# Altium footprint library H4_6-port_EtherCAT_Junction_Module.PcbLib: 31 footprints (part 2 of 2)
Each footprint in its own frame and in the unit in brackets; x right, y up, seen from the top. Pads: shape width x height; smd on the part's side, far side on the other; paste and mask are expansions set on the pad; w line width, h text height; cw(c..) or ccw(c..) is an arc to the next point about the centre after c.
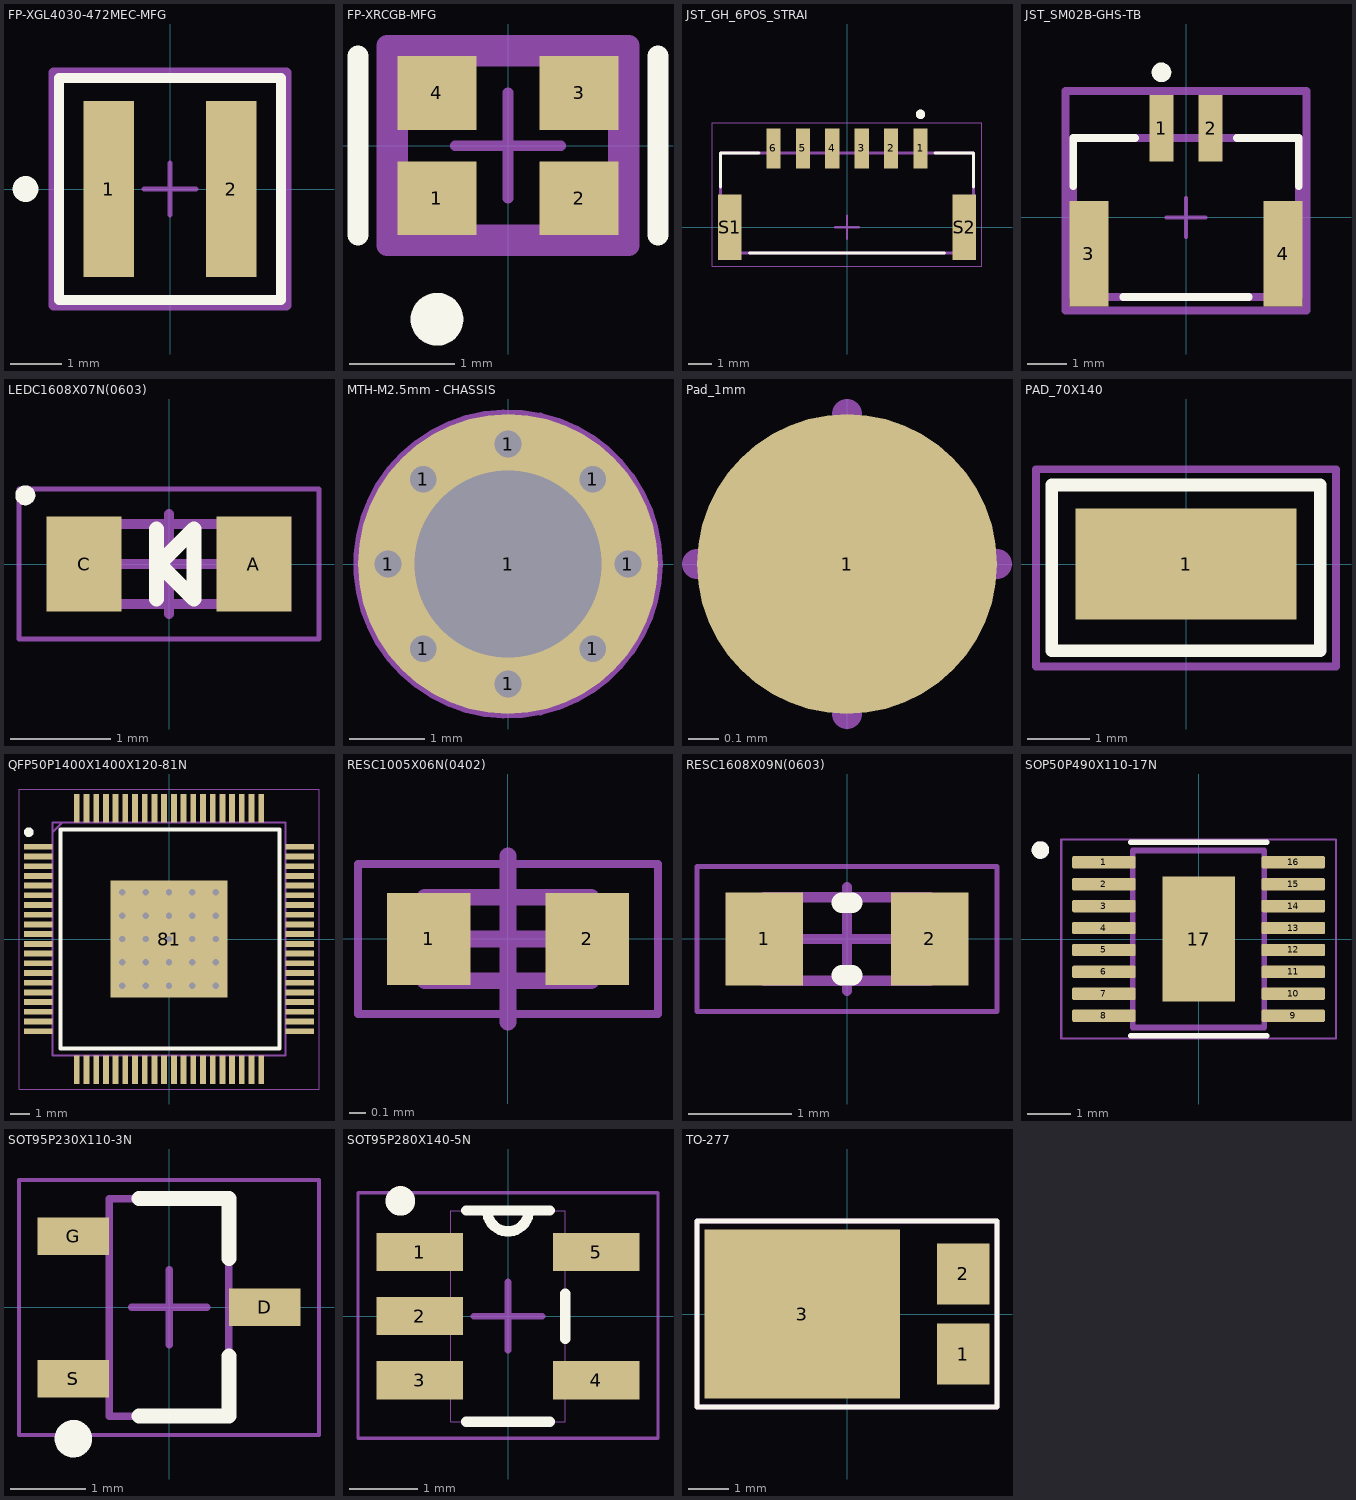
[diagram p1: the footprints below, top view; thin cyan lines are the x and y axes]

## FP-XGL4030-472MEC-MFG [mm]
pads (2):
  rect 0.98x3.4 smd paste+0 mask+0: 1(-1.185,0) 2(1.185,0)
Top Overlay:
  circle w0.25: c-2.8,0 r0.125
  lines w0.2: -2.15,-2.15 2.15,-2.15 2.15,2.15 -2.15,2.15 -2.15,-2.15
Top Designator:
  text ".Designator" at 0.089,0.367 h0.89
Top Component Outline:
  lines w0.2: -2.15,-2.15 2.15,-2.15 2.15,2.15 -2.15,2.15 -2.15,-2.15
Top Component Center:
  lines w0.1: -0.5,0 0.5,0 ; 0,-0.5 0,0.5
Top Courtyard:
  lines w0.2: -2.25,-2.25 2.25,-2.25 ; -2.25,-2.25 -2.25,2.25 ; -2.25,-2.25 2.25,-2.25 ; -2.25,-2.25 -2.25,2.25 ; -2.25,2.25 2.25,2.25 ; -2.25,2.25 2.25,2.25 ; 2.25,-2.25 2.25,2.25 ; 2.25,-2.25 2.25,2.25
3D body "Ind_Coilcraft_XGL4030-472MEC_eec.STEP": height 0.25, standoff 0, extent -2.25,-2.25 2.25,2.25

## FP-XRCGB-MFG [mm]
pads (4):
  rect 0.75x0.7 smd paste+0 mask+0: 1(-0.675,-0.5) 2(0.675,-0.5) 3(0.675,0.5) 4(-0.675,0.5)
Top Overlay:
  circle w0.25: c-0.675,-1.65 r0.125
  lines w0.2: -1.425,-0.85 -1.425,0.85 ; 1.425,-0.85 1.425,0.85
Top Designator:
  text ".Designator" at 0,0.188 h1
Top Component Center:
  lines w0.1: -0.5,0 0.5,0 ; 0,-0.5 0,0.5
Top Courtyard:
  lines w0.2: -1.15,-0.95 -1.15,0.95 1.15,0.95 1.15,-0.95 -1.15,-0.95 ; -1.05,-0.85 -1.05,0.85 1.05,0.85 1.05,-0.85 -1.05,-0.85
Top Assembly:
  lines w0.2: -1.15,-0.95 -1.15,0.95 1.15,0.95 1.15,-0.95 -1.15,-0.95
3D body "Crys_Murata_XRCGB27M000F2P00R0_eec.STEP": height 0.7, standoff 0, extent -1,-0.8 1,0.8

## JST_GH_6POS_STRAI [mm]
pads (8):
  rect 0.6x1.7 smd: 1(3.125,3.35) 2(1.875,3.35) 3(0.625,3.35) 4(-0.625,3.35) 5(-1.875,3.35) 6(-3.125,3.35)
  rect 1x2.8 smd: S1(-4.975,0) S2(4.975,0)
Top Overlay:
  circle w0.2: c3.125,4.8 r0.1
  lines w0.127: -5.375,1.72 -5.375,3.15 -3.75,3.15 ; -4.15,-1.1 4.15,-1.1 ; 3.75,3.15 5.375,3.15 5.375,1.72
Top Designator:
  text ".Designator" at 0.089,0.367 h0.89
Top Component Center:
  lines w0.1: -0.5,0 0.5,0 ; 0,-0.5 0,0.5
Mechanical 13:
  circle w0.2: c3.125,4.8 r0.1
  lines w0.127: -5.375,-1.1 5.375,-1.1 5.375,3.15 -5.375,3.15 -5.375,-1.1
Top Courtyard:
  lines w0.05: -5.725,-1.65 5.725,-1.65 5.725,4.45 -5.725,4.45 -5.725,-1.65
3D body "BM06B-GHS-TBT-LF--SN--N---3DModel-STEP-56544.STEP": height 4.15, standoff 0, extent -5.375,-1.1 5.375,3.85

## JST_SM02B-GHS-TB [mm]
pads (4):
  rect 0.6x1.7 smd paste+0 mask+0: 1(-0.625,2.275) 2(0.625,2.275)
  rect 1x2.7 smd paste+0 mask+0: 3(-2.475,-0.925) 4(2.475,-0.925)
Top Overlay:
  circle w0.25: c-0.625,3.7 r0.125
  lines w0.2: -2.875,0.8 -2.875,2.025 -1.3,2.025 ; -1.6,-2.025 1.6,-2.025 ; 1.3,2.025 2.875,2.025 2.875,0.8
Top Designator:
  text ".Designator" at 0,0.613 h1
Top Component Outline:
  lines w0.2: -2.875,-2.025 2.875,-2.025 2.875,2.025 -2.875,2.025 -2.875,-2.025
Top Component Center:
  lines w0.1: -0.5,0 0.5,0 ; 0,-0.5 0,0.5
Top Courtyard:
  lines w0.2: -3.075,-2.375 3.075,-2.375 3.075,3.225 -3.075,3.225 -3.075,-2.375
Top Assembly:
  lines w0.2: -3.075,-2.375 3.075,-2.375 3.075,3.225 -3.075,3.225 -3.075,-2.375
3D body "Conn_JST_SM02B-GHS-TB_LF_SN_eec.STEP": height 4.35, standoff 0, extent -2.875,-2.025 2.875,2.825

## LEDC1608X07N(0603) [mm]
pads (2):
  rect 0.75x0.95 smd: A(0.85,0) C(-0.85,0)
Top Overlay:
  circle w0.1: c-1.437,0.687 r0.05
  lines w0.15: -0.125,-0.35 -0.125,0.35 ; -0.1,0 0.25,0.35 0.25,-0.35 -0.1,0
Top Designator:
  text ".Designator" at -1.36,-0.37 h0.89
Top Component Center:
  lines w0.1: -0.5,0 0.5,0 ; 0,-0.5 0,0.5
Mechanical 13:
  lines w0.1: -0.8,-0.4 0.8,-0.4 0.8,0.4 -0.8,0.4 -0.8,-0.4
Top Courtyard:
  lines w0.05: -1.5,-0.75 1.5,-0.75 1.5,0.75 -1.5,0.75 -1.5,-0.75
3D body "LED 0603 single color.stp": height 0.7, standoff -0.01, extent -0.8,-0.394 0.8,0.394

## MTH-M2.5mm - CHASSIS [mil]
pads (9):
  round 26 hole 14 mask+0: 1(-62.99,0) 1(-44.54,-44.54) 1(-44.54,44.54) 1(0,-62.99) 1(0,62.99) 1(44.54,-44.54) 1(44.54,44.54) 1(62.99,0)
  round 157.48 hole 98.43 paste+0 mask+1: 1(0,0)
Top Designator:
  text ".Designator" at 3.52,14.45 h35
Top Component Center:
  lines w3.94: -19.68,0 19.68,0 ; 0,-19.68 0,19.68
Top Courtyard:
  circle w5: c0,0 r78.74

## Pad_1mm [mm]
pads (1):
  round 1 smd paste-0.038 mask+0.025: 1(0,0)
Top Designator:
  text ".Designator" at 0.089,0.367 h0.89
Top Component Center:
  lines w0.1: -0.5,0 0.5,0 ; 0,-0.5 0,0.5

## PAD_70X140 [mil]
pads (1):
  rect 140x70 smd paste-1.5 mask+1: 1(0,0)
Top Overlay:
  lines w8: -85,-55 -85,50 85,50 85,-55 -85,-55
Top Designator:
  text ".Designator" at 3.52,14.45 h35
Top Component Center:
  lines w3.94: -19.68,0 19.68,0 ; 0,-19.68 0,19.68
Top Courtyard:
  lines w5: -95,-65 -95,60 95,60 95,-65 -95,-65
3D body "User Library-keystone_5015.STEP": height 60, standoff 0, extent -52.5,-20 52.5,20

## QFP50P1400X1400X120-81N [mm]
pads (81):
  rect 1.475x0.3 smd: 1(-6.738,4.75) 2(-6.738,4.25) 3(-6.738,3.75) 4(-6.738,3.25) 5(-6.738,2.75) 6(-6.738,2.25) 7(-6.738,1.75) 8(-6.738,1.25) 9(-6.738,0.75) 10(-6.738,0.25) 11(-6.738,-0.25) 12(-6.738,-0.75) 13(-6.738,-1.25) 14(-6.738,-1.75) 15(-6.738,-2.25) 16(-6.738,-2.75) 17(-6.738,-3.25) 18(-6.738,-3.75) 19(-6.738,-4.25) 20(-6.738,-4.75) 41(6.738,-4.75) 42(6.738,-4.25) 43(6.738,-3.75) 44(6.738,-3.25) 45(6.738,-2.75) 46(6.738,-2.25) 47(6.738,-1.75) 48(6.738,-1.25) 49(6.738,-0.75) 50(6.738,-0.25) 51(6.738,0.25) 52(6.738,0.75) 53(6.738,1.25) 54(6.738,1.75) 55(6.738,2.25) 56(6.738,2.75) 57(6.738,3.25) 58(6.738,3.75) 59(6.738,4.25) 60(6.738,4.75)
  rect 0.3x1.475 smd: 21(-4.75,-6.738) 22(-4.25,-6.738) 23(-3.75,-6.738) 24(-3.25,-6.738) 25(-2.75,-6.738) 26(-2.25,-6.738) 27(-1.75,-6.738) 28(-1.25,-6.738) 29(-0.75,-6.738) 30(-0.25,-6.738) 31(0.25,-6.738) 32(0.75,-6.738) 33(1.25,-6.738) 34(1.75,-6.738) 35(2.25,-6.738) 36(2.75,-6.738) 37(3.25,-6.738) 38(3.75,-6.738) 39(4.25,-6.738) 40(4.75,-6.738) 61(4.75,6.738) 62(4.25,6.738) 63(3.75,6.738) 64(3.25,6.738) 65(2.75,6.738) 66(2.25,6.738) 67(1.75,6.738) 68(1.25,6.738) 69(0.75,6.738) 70(0.25,6.738) 71(-0.25,6.738) 72(-0.75,6.738) 73(-1.25,6.738) 74(-1.75,6.738) 75(-2.25,6.738) 76(-2.75,6.738) 77(-3.25,6.738) 78(-3.75,6.738) 79(-4.25,6.738) 80(-4.75,6.738)
  rect 6x6 smd paste-3: 81(0,0)
via 0,-1.2 diameter 0.66 hole 0.33
via 0,0 diameter 0.66 hole 0.33
via 0,-2.4 diameter 0.66 hole 0.33
via 0,1.2 diameter 0.66 hole 0.33
via 0,2.4 diameter 0.66 hole 0.33
via -1.2,0 diameter 0.66 hole 0.33
via -2.4,0 diameter 0.66 hole 0.33
via 1.2,0 diameter 0.66 hole 0.33
via 2.4,0 diameter 0.66 hole 0.33
via 2.4,-1.2 diameter 0.66 hole 0.33
via 1.2,-1.2 diameter 0.66 hole 0.33
via 2.4,-2.4 diameter 0.66 hole 0.33
via 1.2,-2.4 diameter 0.66 hole 0.33
via -2.4,-2.4 diameter 0.66 hole 0.33
via -1.2,-2.4 diameter 0.66 hole 0.33
via -2.4,-1.2 diameter 0.66 hole 0.33
via -1.2,-1.2 diameter 0.66 hole 0.33
via -2.4,1.2 diameter 0.66 hole 0.33
via -1.2,1.2 diameter 0.66 hole 0.33
via -2.4,2.4 diameter 0.66 hole 0.33
via -1.2,2.4 diameter 0.66 hole 0.33
via 2.4,1.2 diameter 0.66 hole 0.33
via 1.2,1.2 diameter 0.66 hole 0.33
via 2.4,2.4 diameter 0.66 hole 0.33
via 1.2,2.4 diameter 0.66 hole 0.33
Top Overlay:
  circle w0.25: c-7.225,5.5 r0.125
  lines w0.2: -5.58,-5.63 -5.58,5.63 5.69,5.63 5.69,-5.63 -5.58,-5.63
Top Designator:
  text ".Designator" at 0.089,0.387 h0.89
Top Component Center:
  lines w0.1: -0.5,-0.01 0.5,-0.01 ; 0,-0.51 0,0.49
Mechanical 13:
  lines w0.1: -6,5.5 -5.5,6 ; -6,-6 6,-6 6,6 -6,6 -6,-6
Top Courtyard:
  lines w0.05: -7.725,-7.725 7.725,-7.725 7.725,7.725 -7.725,7.725 -7.725,-7.725
3D body "LAN9254_JRX.stp": height 1.2, standoff 0, extent -7,-7 7,7

## RESC1005X06N(0402) [mm]
pads (2):
  rect 0.5x0.55 smd: 1(-0.475,0) 2(0.475,0)
Top Designator:
  text ".Designator" at -0.831,-0.283 h0.89
Top Component Outline:
  lines w0.1: -0.5,-0.25 0.5,-0.25 0.5,0.25 -0.5,0.25 -0.5,-0.25
Top Component Center:
  lines w0.1: -0.5,0 0.5,0 ; 0,-0.5 0,0.5
Top Courtyard:
  lines w0.05: -0.9,-0.45 0.9,-0.45 0.9,0.45 -0.9,0.45 -0.9,-0.45
3D body "RESC1005X06N(0402).step": height 0.55, standoff 0, extent -0.5,-0.25 0.5,0.25

## RESC1608X09N(0603) [mm]
pads (2):
  rect 0.75x0.9 smd: 1(-0.8,0) 2(0.8,0)
Top Overlay:
  lines w0.2: -0.05,-0.35 0.05,-0.35 ; -0.05,0.35 0.05,0.35
Top Designator:
  text ".Designator" at -1.33,-0.6 h0.89
Top Component Outline:
  lines w0.1: -0.8,-0.405 -0.8,0.405 0.8,0.405 0.8,-0.405 -0.8,-0.405
Top Component Center:
  lines w0.1: -0.5,0 0.5,0 ; 0,-0.5 0,0.5
Top Courtyard:
  lines w0.05: -1.45,-0.7 -1.45,0.7 1.45,0.7 1.45,-0.7 -1.45,-0.7
3D body "RESC1608X09N(0603).step": height 0.9, standoff 0, extent -0.8,-0.405 0.8,0.405

## SOP50P490X110-17N [mm]
pads (17):
  rrect25% 1.45x0.28 smd: 1(-2.16,1.75) 2(-2.16,1.25) 3(-2.16,0.75) 4(-2.16,0.25) 5(-2.16,-0.25) 6(-2.16,-0.75) 7(-2.16,-1.25) 8(-2.16,-1.75) 9(2.16,-1.75) 10(2.16,-1.25) 11(2.16,-0.75) 12(2.16,-0.25) 13(2.16,0.25) 14(2.16,0.75) 15(2.16,1.25) 16(2.16,1.75)
  rect 1.651x2.845 smd paste-2: 17(0,0)
Top Overlay:
  circle w0.2: c-3.61,2.03 r0.1
  lines w0.127: -1.551,-2.21 1.551,-2.21 ; -1.551,2.21 1.551,2.21
Top Paste:
  region: 0.413,-0.711 -0.413,-0.711 -0.413,0.711 0.413,0.711
Top Designator:
  text ".Designator" at 0.089,0.367 h0.89
Top Component Outline:
  lines w0.127: -1.5,-2.02 1.5,-2.02 1.5,2.02 -1.5,2.02 -1.5,-2.02
Top Component Center:
  lines w0.1: -0.5,0 0.5,0 ; 0,-0.5 0,0.5
Top Courtyard:
  circle w0.2: c-3.61,2.03 r0.1
  lines w0.05: -3.135,-2.27 3.135,-2.27 3.135,2.27 -3.135,2.27 -3.135,-2.27
3D body "LT8619IMSE-5#PBF.STEP": height 1.1, standoff 0, extent -2.45,-2.019 2.45,2.019

## SOT95P230X110-3N [mm]
pads (3):
  rect 0.95x0.5 smd: D(1.275,0) G(-1.275,0.95) S(-1.275,-0.95)
Top Overlay:
  circle w0.25: c-1.275,-1.75 r0.125
  lines w0.2: -0.4,-1.45 0.8,-1.45 0.8,-0.65 ; -0.4,1.45 0.8,1.45 0.8,0.65
Top Designator:
  text ".Designator" at 0.089,0.367 h0.89
Top Component Center:
  lines w0.1: -0.5,0 0.5,0 ; 0,-0.5 0,0.5
Mechanical 13:
  lines w0.1: -0.8,-1.45 0.8,-1.45 0.8,1.45 -0.8,1.45 -0.8,-1.45
Top Courtyard:
  lines w0.05: -2,-1.7 2,-1.7 2,1.7 -2,1.7 -2,-1.7
3D body "SOT95P230X110-3N.step": height 1.1, standoff 0, extent -1.4,-1.45 1.4,1.45

## SOT95P280X140-5N [mil]
pads (5):
  rect 50x22 smd: 1(-51,37) 2(-51,0) 3(-51,-37) 4(51,-37) 5(51,37)
Top Overlay:
  circle w15: c-62.2,66.54 r1
  lines w6: -24,-61 24,-61 ; -24,61 -12,61 ; 24,61 12,61 ; 33,-13 33,13 ; -12,61 ccw(c0,61) 12,61 ; -12,61 12,61
Top Designator:
  text ".Designator" at -3.17,-12.32 h35
Top Component Center:
  lines w3.94: -19.68,0 19.68,0 ; 0,-19.68 0,19.68
Mechanical 13:
  lines w0: -33,-47 -33,-61 33,-61 33,-47 ; -33,-47 -33,-28 ; -33,-47 -59,-47 -59,-28 -33,-28 ; -33,-28 -33,-10 ; -33,-10 -33,10 ; -33,-10 -59,-10 -59,10 -33,10 ; -33,10 -33,28 ; -33,28 -33,47 ; -33,28 -59,28 -59,47 -33,47 ; -33,47 -33,61 -12,61 ; -12,61 ccw(c0,61) 12,61 ; -12,61 12,61 ; 12,61 33,61 33,47 ; 33,-47 33,-28 ; 33,-47 59,-47 59,-28 33,-28 ; 33,-28 33,28 ; 33,28 33,47 ; 33,28 59,28 59,47 33,47
Top Courtyard:
  lines w1.97: -86.61,-70.47 86.61,-70.47 86.61,71.26 -86.61,71.26 -86.61,-70.47
3D body "step_temp.STEP": height 55.12, standoff 0, extent -54.72,-59.45 55.51,58.66

## TO-277 [mm]
pads (3):
  rect 1.3x1.5 smd: 1(2.85,-0.985) 2(2.85,0.985)
  rect 4.8x4.15 smd: 3(-1.1,0)
Top Overlay:
  lines w0.127: -3.69,-2.286 -3.69,2.286 3.68,2.286 3.68,-2.286 -3.69,-2.286
Top Designator:
  text ".Designator" at 0.059,0.357 h0.89
Top Component Center:
  lines w0.1: -0.5,0 0.5,0 ; 0,-0.5 0,0.5
Top Courtyard:
  lines w0.127: -3.69,-2.286 -3.69,2.286 3.68,2.286 3.68,-2.286 -3.69,-2.286
3D body "FSV20100V.STEP": height 1.19, standoff -0.01, extent -3.25,-2.22 3.25,2.22